# EAGLE library part 555 (library SparkFun-IC-Special-Function)
General purpose bipolar Timer Datasheet <http://www.sparkfun.com/datasheets/Components/General/ne555.pdf> SparkFun Products SparkFun SparkPunk Sequencer Kit <https://www.sparkfun.com/products/12707> (KIT-12707) Storefront Component: 555 Timer <https://www.sparkfun.com/products/9273> (COM-09273) Two parts valid for production: VFP: IC-11930 (M7555 PTH) VFP: IC-09173 (555 PTH) - Preferred
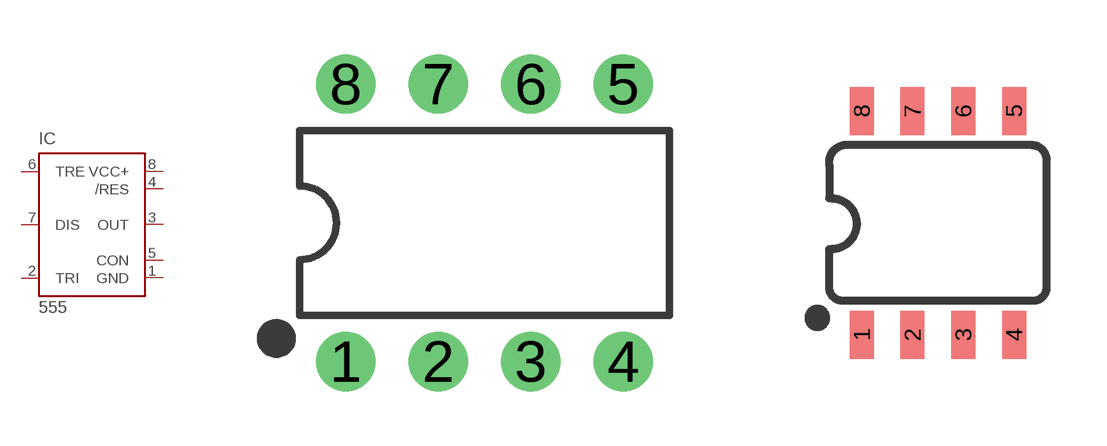
[diagram p26: symbol with the pads of DIP08; footprints DIP08, SO08]

Designator prefix IC

## 555P (PROD_ID: IC-09173; PROD_ID_ALT: IC-09173; VALUE: 555)  [DIP08]
1  GND  pwr
2  TRI  in
3  OUT  out
4  /RES  in
5  CON  in
6  TRE  in
7  DIS  in
8  VCC+  pwr

## 555D (PROD_ID: NA-XXXXX; VALUE: 555)  [SO08]
Pads as for DIP08

## 555KIT (PROD_ID: IC-09173; PROD_ID_ALT: IC-11930; VALUE: 555)  [DIP08-KIT]
Pads as for DIP08

## Footprint DIP08 (pad centres in mm)
Dual In Line Package
drill 0.813 pad 1.626: 1 -3.81,-3.81; 2 -1.27,-3.81; 3 1.27,-3.81; 4 3.81,-3.81; 5 3.81,3.81; 6 1.27,3.81; 7 -1.27,3.81; 8 -3.81,3.81

## Footprint SO08 (pad centres in mm)
SOIC, 0.15 inch width
smd 0.6 x 1.2: 1 -1.905,-2.8; 2 -0.635,-2.8; 3 0.635,-2.8; 4 1.905,-2.8; 5 1.905,2.8; 6 0.635,2.8; 7 -0.635,2.8; 8 -1.905,2.8

## Footprint DIP08-KIT (pad centres in mm)
drill 0.813 pad 1.905: 1 -3.81,-4.191; 2 -1.27,-4.191; 3 1.27,-4.191; 4 3.81,-4.191; 5 3.81,4.191; 6 1.27,4.191; 7 -1.27,4.191
drill 0.864 pad 1.905: 8 -3.81,4.191